# EAGLE library part WS2811 (library PixelHeart)
The WS2811 is a 3 channel output LED driver circuit. Datasheet <http://www.adafruit.com/datasheets/WS2811.pdf>
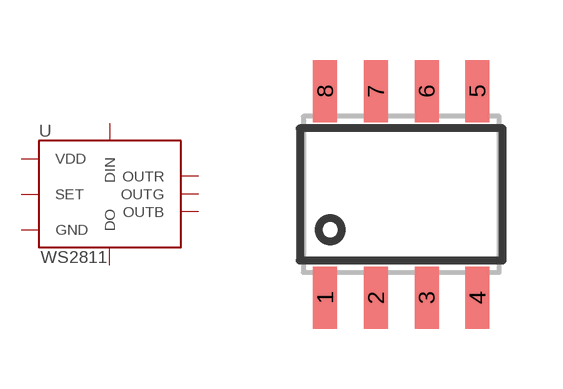
[diagram p0: symbol with the pads of SOP8; footprint SOP8]

Designator prefix U

## WS2811SOP  [SOP8]
1  OUTR  out
2  OUTG  out
3  OUTB  out
4  GND  pwr
5  DO  out
6  DIN  in
7  SET  in
8  VDD  pwr

## Footprint SOP8 (pad centres in mm)
Footprint for the SOP-8 package. Designed from the WS2811 datasheet <http://www.adafruit.com/datasheets/WS2811.pdf>. Tested? NO
smd 0.6 x 1.55: 1 -1.905,-2.583; 2 -0.635,-2.583; 3 0.635,-2.583; 4 1.905,-2.583; 5 1.905,2.583; 6 0.635,2.583; 7 -0.635,2.583; 8 -1.905,2.583